# EAGLE library part DSP56721 (library ld-components)
DSP56271
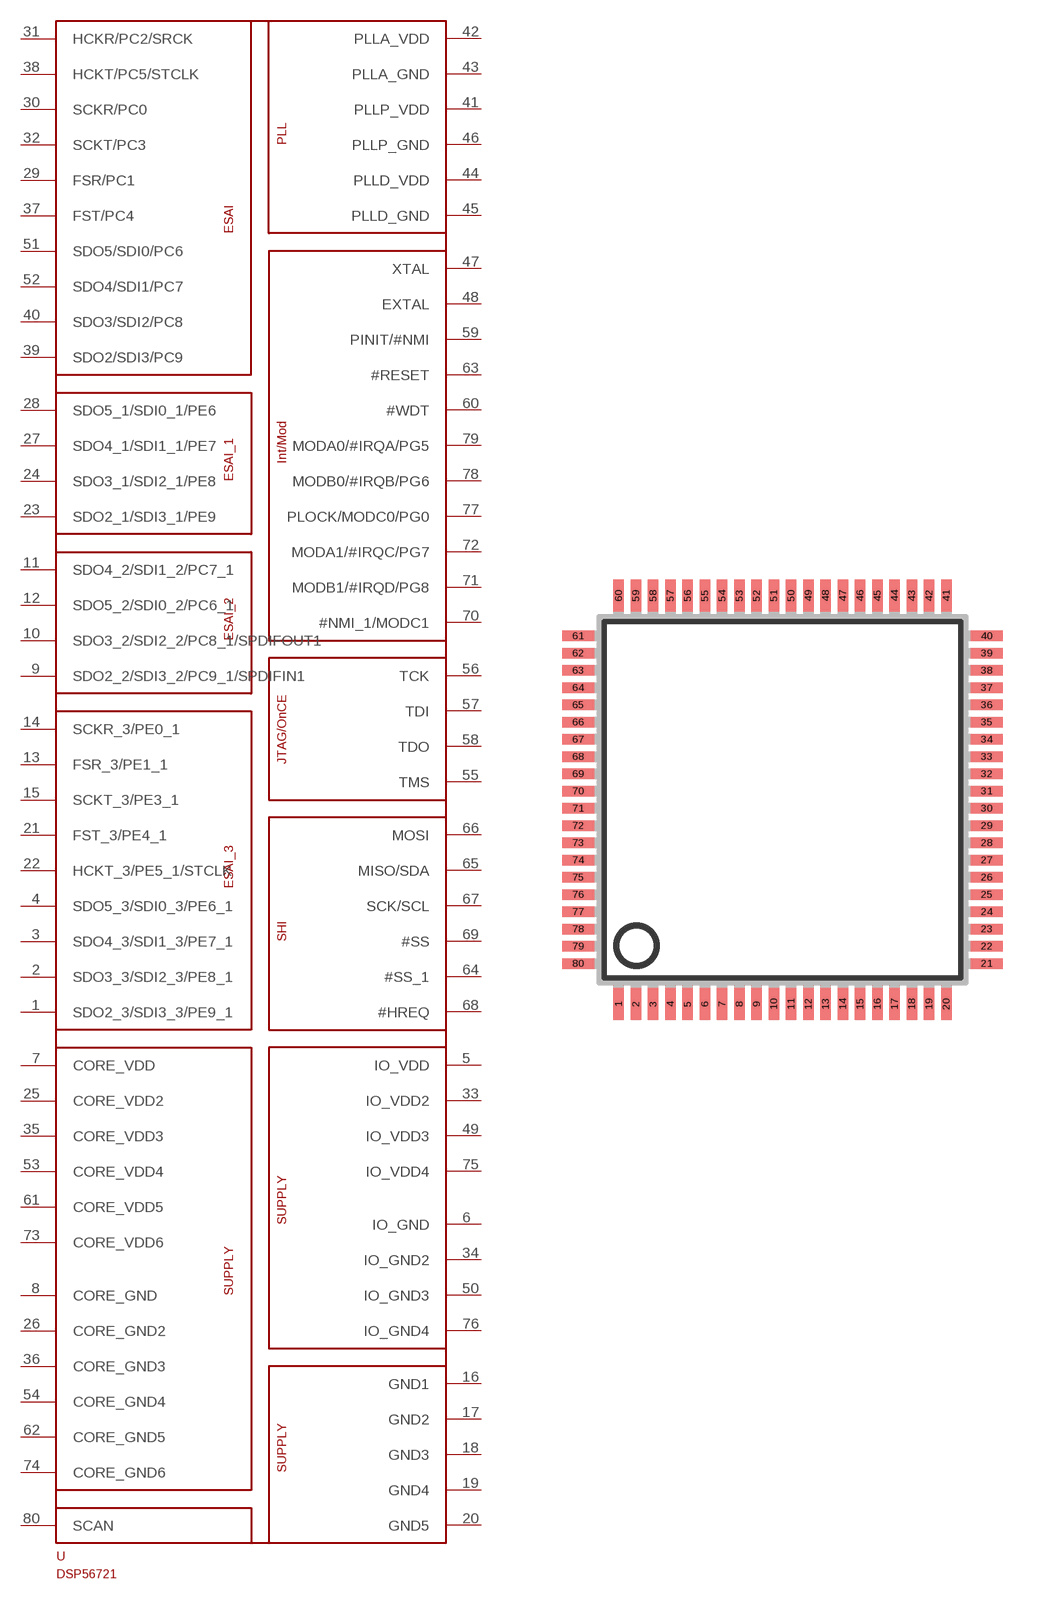
[diagram p0: symbol with the pads of LQFP80; footprint LQFP80]

Designator prefix -

## DSP56721-A  [LQFP80]
1  SDO2_3/SDI3_3/PE9_1
2  SDO3_3/SDI2_3/PE8_1
3  SDO4_3/SDI1_3/PE7_1
4  SDO5_3/SDI0_3/PE6_1
5  IO_VDD  pwr
6  IO_GND  pwr
7  CORE_VDD  pwr
8  CORE_GND  pwr
9  SDO2_2/SDI3_2/PC9_1/SPDIFIN1
10  SDO3_2/SDI2_2/PC8_1/SPDIFOUT1
11  SDO4_2/SDI1_2/PC7_1
12  SDO5_2/SDI0_2/PC6_1
13  FSR_3/PE1_1
14  SCKR_3/PE0_1
15  SCKT_3/PE3_1
16  GND1  pwr
17  GND2  pwr
18  GND3  pwr
19  GND4  pwr
20  GND5  pwr
21  FST_3/PE4_1
22  HCKT_3/PE5_1/STCLK
23  SDO2_1/SDI3_1/PE9
24  SDO3_1/SDI2_1/PE8
25  CORE_VDD2  pwr
26  CORE_GND2  pwr
27  SDO4_1/SDI1_1/PE7
28  SDO5_1/SDI0_1/PE6
29  FSR/PC1
30  SCKR/PC0
31  HCKR/PC2/SRCK
32  SCKT/PC3
33  IO_VDD2  pwr
34  IO_GND2  pwr
35  CORE_VDD3  pwr
36  CORE_GND3  pwr
37  FST/PC4
38  HCKT/PC5/STCLK
39  SDO2/SDI3/PC9
40  SDO3/SDI2/PC8
41  PLLP_VDD
42  PLLA_VDD
43  PLLA_GND
44  PLLD_VDD
45  PLLD_GND
46  PLLP_GND
47  XTAL
48  EXTAL
49  IO_VDD3  pwr
50  IO_GND3  pwr
51  SDO5/SDI0/PC6
52  SDO4/SDI1/PC7
53  CORE_VDD4  pwr
54  CORE_GND4  pwr
55  TMS
56  TCK
57  TDI
58  TDO
59  PINIT/#NMI
60  #WDT  in
61  CORE_VDD5  pwr
62  CORE_GND5  pwr
63  #RESET  in
64  #SS_1
65  MISO/SDA
66  MOSI
67  SCK/SCL
68  #HREQ
69  #SS
70  #NMI_1/MODC1
71  MODB1/#IRQD/PG8
72  MODA1/#IRQC/PG7
73  CORE_VDD6  pwr
74  CORE_GND6  pwr
75  IO_VDD4  pwr
76  IO_GND4  pwr
77  PLOCK/MODC0/PG0
78  MODB0/#IRQB/PG6
79  MODA0/#IRQA/PG5
80  SCAN

## Footprint LQFP80 (pad centres in mm)
80 Lead LQFP_ED (SQ-80) (ST-80) www.analog.com AD9852_b.pdf
smd 0.4 x 1.2: 1 -6.175,-7.7; 2 -5.525,-7.7; 3 -4.875,-7.7; 4 -4.225,-7.7; 5 -3.575,-7.7; 6 -2.925,-7.7; 7 -2.275,-7.7; 8 -1.625,-7.7; 9 -0.975,-7.7; 10 -0.325,-7.7; 11 0.325,-7.7; 12 0.975,-7.7; 13 1.625,-7.7; 14 2.275,-7.7; 15 2.925,-7.7; 16 3.575,-7.7; 17 4.225,-7.7; 18 4.875,-7.7; 19 5.525,-7.7; 20 6.175,-7.7; 41 6.175,7.7; 42 5.525,7.7; 43 4.875,7.7; 44 4.225,7.7; 45 3.575,7.7; 46 2.925,7.7; 47 2.275,7.7; 48 1.625,7.7; 49 0.975,7.7; 50 0.325,7.7; 51 -0.325,7.7; 52 -0.975,7.7; 53 -1.625,7.7; 54 -2.275,7.7; 55 -2.925,7.7; 56 -3.575,7.7; 57 -4.225,7.7; 58 -4.875,7.7; 59 -5.525,7.7; 60 -6.175,7.7
smd 1.2 x 0.4: 21 7.7,-6.175; 22 7.7,-5.525; 23 7.7,-4.875; 24 7.7,-4.225; 25 7.7,-3.575; 26 7.7,-2.925; 27 7.7,-2.275; 28 7.7,-1.625; 29 7.7,-0.975; 30 7.7,-0.325; 31 7.7,0.325; 32 7.7,0.975; 33 7.7,1.625; 34 7.7,2.275; 35 7.7,2.925; 36 7.7,3.575; 37 7.7,4.225; 38 7.7,4.875; 39 7.7,5.525; 40 7.7,6.175; 61 -7.7,6.175; 62 -7.7,5.525; 63 -7.7,4.875; 64 -7.7,4.225; 65 -7.7,3.575; 66 -7.7,2.925; 67 -7.7,2.275; 68 -7.7,1.625; 69 -7.7,0.975; 70 -7.7,0.325; 71 -7.7,-0.325; 72 -7.7,-0.975; 73 -7.7,-1.625; 74 -7.7,-2.275; 75 -7.7,-2.925; 76 -7.7,-3.575; 77 -7.7,-4.225; 78 -7.7,-4.875; 79 -7.7,-5.525; 80 -7.7,-6.175